# Altium footprint library mw.PcbLib: 123 footprints (part 3 of 8)
Each footprint in its own frame and in the unit in brackets; x right, y up, seen from the top. Pads: shape width x height; smd on the part's side, far side on the other; paste and mask are expansions set on the pad; w line width, h text height; cw(c..) or ccw(c..) is an arc to the next point about the centre after c.
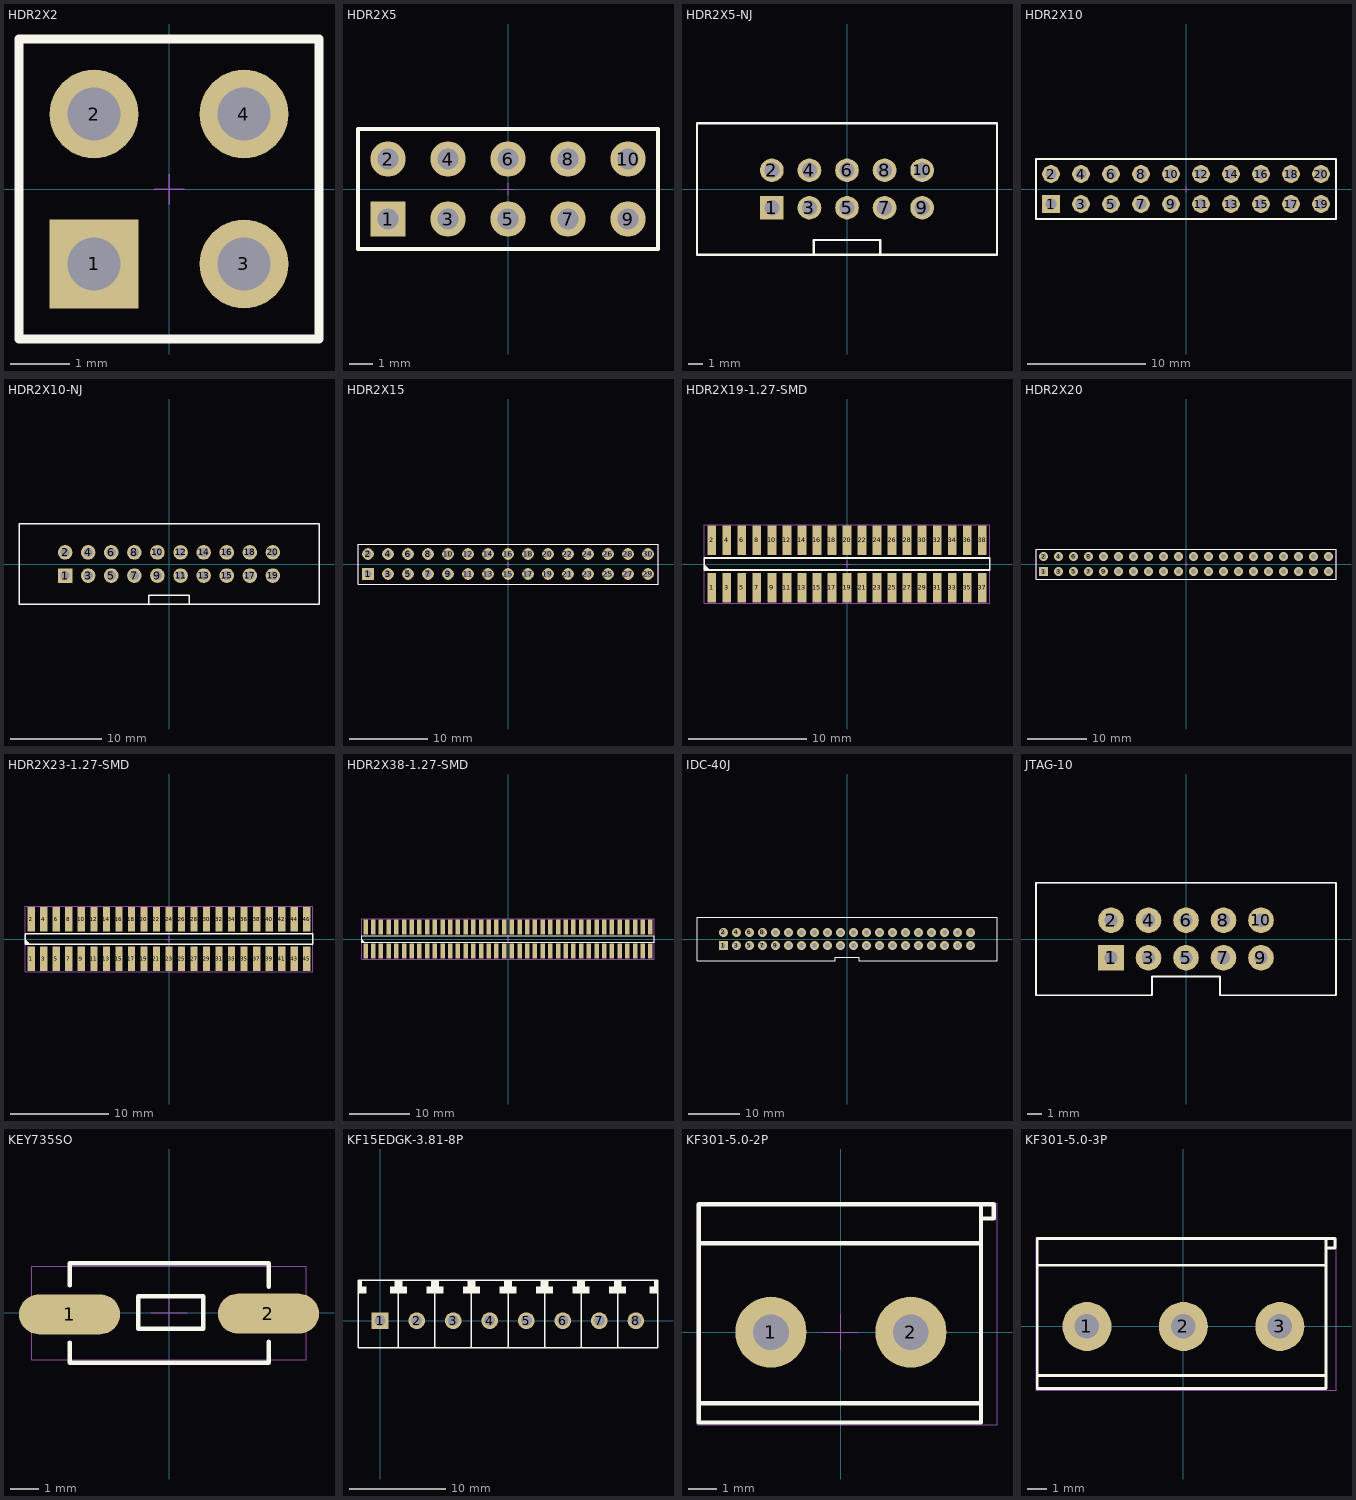
[diagram p2: the footprints below, top view; thin cyan lines are the x and y axes]

## HDR2X2 [mm] "Connector; Header"
pads (4):
  rect 1.5x1.5 hole 0.9: 1(-1.27,-1.27)
  round 1.5 hole 0.9: 2(-1.27,1.27) 3(1.27,-1.27) 4(1.27,1.27)
Top Overlay:
  lines w0.152: -2.54,2.52 -2.54,-2.54 2.54,-2.54 2.54,2.52 ; -2.54,2.54 2.54,2.54
Mechanical 15:
  lines w0.025: -2.54,2.52 -2.54,-2.54 2.54,-2.54 2.54,2.52 ; -2.54,2.54 2.54,2.54 ; -0.254,0 0.254,0 ; 0,-0.254 0,0.254

## HDR2X5 [mm] "Connector; Header; 5x2 Position"
pads (10):
  rect 1.5x1.5 hole 0.9: 1(-5.08,-1.27)
  round 1.5 hole 0.9: 2(-5.08,1.27) 3(-2.54,-1.27) 4(-2.54,1.27) 5(0,-1.27) 6(0,1.27) 7(2.54,-1.27) 8(2.54,1.27) 9(5.08,-1.27) 10(5.08,1.27)
Top Overlay:
  lines w0.152: -6.35,-2.54 6.35,-2.54 6.35,2.54 -6.35,2.54 -6.35,-2.54
Mechanical 15:
  lines w0.025: -0.254,0 0.254,0 ; 0,-0.254 0,0.254 ; -6.35,-2.54 6.35,-2.54 6.35,2.54 -6.35,2.54 -6.35,-2.54
3D body "header-2.54-2x5.STEP": height 9.3, standoff -2.2, extent -6.35,-2.54 6.35,2.54

## HDR2X5-NJ [mm]
pads (10):
  rect 1.6x1.6 hole 1.02: 1(-5.08,-1.27)
  round 1.6 hole 1.02: 2(-5.08,1.27) 3(-2.54,-1.27) 4(-2.54,1.27) 5(0,-1.27) 6(0,1.27) 7(2.54,-1.27) 8(2.54,1.27) 9(5.08,-1.27) 10(5.08,1.27)
Top Overlay:
  lines w0.152: -2.25,-4.45 -2.25,-3.45 2.25,-3.45 2.25,-4.45 ; -10.15,-4.45 -10.15,4.45 10.15,4.45 10.15,-4.45 -10.15,-4.45
3D body "jn-2.54-2x5.STEP": height 9, standoff -1.55, extent -10.15,-4.5 10.15,4.6

## HDR2X10 [mm] "Connector; Header;"
pads (20):
  rect 1.5x1.5 hole 0.9: 1(-11.43,-1.27)
  round 1.5 hole 0.9: 2(-11.43,1.27) 3(-8.89,-1.27) 4(-8.89,1.27) 5(-6.35,-1.27) 6(-6.35,1.27) 7(-3.81,-1.27) 8(-3.81,1.27) 9(-1.27,-1.27) 10(-1.27,1.27) 11(1.27,-1.27) 12(1.27,1.27) 13(3.81,-1.27) 14(3.81,1.27) 15(6.35,-1.27) 16(6.35,1.27) 17(8.89,-1.27) 18(8.89,1.27) 19(11.43,-1.27) 20(11.43,1.27)
Top Overlay:
  lines w0.152: -12.7,-2.54 -12.7,2.54 12.7,2.54 12.7,-2.54 -12.7,-2.54
Mechanical 15:
  lines w0.025: -0.254,0 0.254,0 ; 0,-0.254 0,0.254 ; -12.7,-2.54 -12.7,2.54 12.7,2.54 12.7,-2.54 -12.7,-2.54
3D body "header-2.54-2x10.STEP": height 9.3, standoff -2.2, extent -12.7,-2.535 12.7,2.545

## HDR2X10-NJ [mm]
pads (20):
  rect 1.6x1.6 hole 1.02: 1(-11.43,-1.27)
  round 1.6 hole 1.02: 2(-11.43,1.27) 3(-8.89,-1.27) 4(-8.89,1.27) 5(-6.35,-1.27) 6(-6.35,1.27) 7(-3.81,-1.27) 8(-3.81,1.27) 9(-1.27,-1.27) 10(-1.27,1.27) 11(1.27,-1.27) 12(1.27,1.27) 13(3.81,-1.27) 14(3.81,1.27) 15(6.35,-1.27) 16(6.35,1.27) 17(8.89,-1.27) 18(8.89,1.27) 19(11.43,-1.27) 20(11.43,1.27)
Top Overlay:
  lines w0.152: -2.25,-4.45 -2.25,-3.45 2.25,-3.45 2.25,-4.45 ; -16.5,-4.45 -16.5,4.45 16.5,4.45 16.5,-4.45 -16.5,-4.45
3D body "jn-2.54-2x10.STEP": height 9, standoff -1.55, extent -16.5,-4.45 16.5,4.65

## HDR2X15 [mm] "Connector; Header;"
pads (30):
  rect 1.5x1.5 hole 0.9: 1(-17.78,-1.27)
  round 1.5 hole 0.9: 2(-17.78,1.27) 3(-15.24,-1.27) 4(-15.24,1.27) 5(-12.7,-1.27) 6(-12.7,1.27) 7(-10.16,-1.27) 8(-10.16,1.27) 9(-7.62,-1.27) 10(-7.62,1.27) 11(-5.08,-1.27) 12(-5.08,1.27) 13(-2.54,-1.27) 14(-2.54,1.27) 15(0,-1.27) 16(0,1.27) 17(2.54,-1.27) 18(2.54,1.27) 19(5.08,-1.27) 20(5.08,1.27) 21(7.62,-1.27) 22(7.62,1.27) 23(10.16,-1.27) 24(10.16,1.27) 25(12.7,-1.27) 26(12.7,1.27) 27(15.24,-1.27) 28(15.24,1.27) 29(17.78,-1.27) 30(17.78,1.27)
Top Overlay:
  lines w0.152: -19.05,2.538 19.05,2.54 19.05,-2.54 -19.05,-2.54 -19.05,2.54
Mechanical 15:
  lines w0.025: -19.05,2.538 19.05,2.54 19.05,-2.54 -19.05,-2.54 ; -0.254,0 0.254,0 ; 0,-0.254 0,0.254 ; -19.05,-2.54 -19.05,2.54 -19.05,-2.54

## HDR2X19-1.27-SMD [mm]
pads (38):
  rect 0.74x2.5 smd: 1(-11.43,-2) 2(-11.43,2) 3(-10.16,-2) 4(-10.16,2) 5(-8.89,-2) 6(-8.89,2) 7(-7.62,-2) 8(-7.62,2) 9(-6.35,-2) 10(-6.35,2) 11(-5.08,-2) 12(-5.08,2) 13(-3.81,-2) 14(-3.81,2) 15(-2.54,-2) 16(-2.54,2) 17(-1.27,-2) 18(-1.27,2) 19(0,-2) 20(0,2) 21(1.27,-2) 22(1.27,2) 23(2.54,-2) 24(2.54,2) 25(3.81,-2) 26(3.81,2) 27(5.08,-2) 28(5.08,2) 29(6.35,-2) 30(6.35,2) 31(7.62,-2) 32(7.62,2) 33(8.89,-2) 34(8.89,2) 35(10.16,-2) 36(10.16,2) 37(11.43,-2) 38(11.43,2)
Top Overlay:
  region: -12.065,0 -11.557,-0.508 -12.065,-0.508
  lines w0.152: -12.065,-0.508 12.065,-0.508 12.065,0.508 -12.065,0.508 -12.065,-0.508
Mechanical 15:
  lines w0.025: -0.254,0 0.254,0 ; 0,-0.254 0,0.254 ; -12.065,-3.302 -12.065,3.302 12.065,3.302 12.065,-3.302 -12.065,-3.302
3D body "header-1.27-2x19.STEP": height 3.71, standoff 0, extent -12.065,-2.415 12.065,2.415

## HDR2X20 [mm] "Connector; Header;"
pads (40):
  rect 1.5x1.5 hole 0.9: 1(-24.13,-1.27)
  round 1.5 hole 0.9: 2(-24.13,1.27) 3(-21.59,-1.27) 4(-21.59,1.27) 5(-19.05,-1.27) 6(-19.05,1.27) 7(-16.51,-1.27) 8(-16.51,1.27) 9(-13.97,-1.27) 10(-13.97,1.27) 11(-11.43,-1.27) 12(-11.43,1.27) 13(-8.89,-1.27) 14(-8.89,1.27) 15(-6.35,-1.27) 16(-6.35,1.27) 17(-3.81,-1.27) 18(-3.81,1.27) 19(-1.27,-1.27) 20(-1.27,1.27) 21(1.27,-1.27) 22(1.27,1.27) 23(3.81,-1.27) 24(3.81,1.27) 25(6.35,-1.27) 26(6.35,1.27) 27(8.89,-1.27) 28(8.89,1.27) 29(11.43,-1.27) 30(11.43,1.27) 31(13.97,-1.27) 32(13.97,1.27) 33(16.51,-1.27) 34(16.51,1.27) 35(19.05,-1.27) 36(19.05,1.27) 37(21.59,-1.27) 38(21.59,1.27) 39(24.13,-1.27) 40(24.13,1.27)
Top Overlay:
  lines w0.152: -25.4,-2.54 25.4,-2.54 25.4,2.54 -25.4,2.54 -25.4,-2.54
Mechanical 15:
  lines w0.025: -0.254,0 0.254,0 ; 0,-0.254 0,0.254 ; -25.4,-2.54 25.4,-2.54 25.4,2.54 -25.4,2.54 -25.4,-2.54

## HDR2X23-1.27-SMD [mm]
pads (46):
  rect 0.74x2.5 smd: 1(-13.97,-2) 2(-13.97,2) 3(-12.7,-2) 4(-12.7,2) 5(-11.43,-2) 6(-11.43,2) 7(-10.16,-2) 8(-10.16,2) 9(-8.89,-2) 10(-8.89,2) 11(-7.62,-2) 12(-7.62,2) 13(-6.35,-2) 14(-6.35,2) 15(-5.08,-2) 16(-5.08,2) 17(-3.81,-2) 18(-3.81,2) 19(-2.54,-2) 20(-2.54,2) 21(-1.27,-2) 22(-1.27,2) 23(0,-2) 24(0,2) 25(1.27,-2) 26(1.27,2) 27(2.54,-2) 28(2.54,2) 29(3.81,-2) 30(3.81,2) 31(5.08,-2) 32(5.08,2) 33(6.35,-2) 34(6.35,2) 35(7.62,-2) 36(7.62,2) 37(8.89,-2) 38(8.89,2) 39(10.16,-2) 40(10.16,2) 41(11.43,-2) 42(11.43,2) 43(12.7,-2) 44(12.7,2) 45(13.97,-2) 46(13.97,2)
Top Overlay:
  region: -14.605,0 -14.097,-0.508 -14.605,-0.508
  lines w0.152: -14.605,-0.508 -14.605,0.508 14.605,0.508 14.605,-0.508 -14.605,-0.508
Mechanical 15:
  lines w0.025: -0.254,0 0.254,0 ; 0,-0.254 0,0.254 ; -14.605,-3.302 14.605,-3.302 14.605,3.302 -14.605,3.302 -14.605,-3.302
3D body "header-1.27-2x23.STEP": height 3.71, standoff 0, extent -14.605,-2.415 14.605,2.415

## HDR2X38-1.27-SMD [mm]
pads (76):
  rect 0.74x2.5 smd: 1(-23.495,-2) 2(-23.495,2) 3(-22.225,-2) 4(-22.225,2) 5(-20.955,-2) 6(-20.955,2) 7(-19.685,-2) 8(-19.685,2) 9(-18.415,-2) 10(-18.415,2) 11(-17.145,-2) 12(-17.145,2) 13(-15.875,-2) 14(-15.875,2) 15(-14.605,-2) 16(-14.605,2) 17(-13.335,-2) 18(-13.335,2) 19(-12.065,-2) 20(-12.065,2) 21(-10.795,-2) 22(-10.795,2) 23(-9.525,-2) 24(-9.525,2) 25(-8.255,-2) 26(-8.255,2) 27(-6.985,-2) 28(-6.985,2) 29(-5.715,-2) 30(-5.715,2) 31(-4.445,-2) 32(-4.445,2) 33(-3.175,-2) 34(-3.175,2) 35(-1.905,-2) 36(-1.905,2) 37(-0.635,-2) 38(-0.635,2) 39(0.635,-2) 40(0.635,2) 41(1.905,-2) 42(1.905,2) 43(3.175,-2) 44(3.175,2) 45(4.445,-2) 46(4.445,2) 47(5.715,-2) 48(5.715,2) 49(6.985,-2) 50(6.985,2) 51(8.255,-2) 52(8.255,2) 53(9.525,-2) 54(9.525,2) 55(10.795,-2) 56(10.795,2) 57(12.065,-2) 58(12.065,2) 59(13.335,-2) 60(13.335,2) 61(14.605,-2) 62(14.605,2) 63(15.875,-2) 64(15.875,2) 65(17.145,-2) 66(17.145,2) 67(18.415,-2) 68(18.415,2) 69(19.685,-2) 70(19.685,2) 71(20.955,-2) 72(20.955,2) 73(22.225,-2) 74(22.225,2) 75(23.495,-2) 76(23.495,2)
Top Overlay:
  region: -24.13,0 -23.622,-0.508 -24.13,-0.508
  lines w0.152: -24.13,-0.508 -24.13,0.508 24.13,0.508 24.13,-0.508 -24.13,-0.508
Mechanical 15:
  lines w0.025: -0.254,0 0.254,0 ; 0,-0.254 0,0.254 ; -24.13,-3.302 -24.13,3.302 24.13,3.302 24.13,-3.302 -24.13,-3.302
3D body "header-1.27-2x38.STEP": height 3.71, standoff 0, extent -24.13,-2.415 24.13,2.415

## IDC-40J [mil] "IDC-40J"
pads (40):
  rect 68x68 hole 35: 1(-950,-50)
  round 68 hole 35: 2(-950,50) 3(-850,-50) 4(-850,50) 5(-750,-50) 6(-750,50) 7(-650,-50) 8(-650,50) 9(-550,-50) 10(-550,50) 11(-450,-50) 12(-450,50) 13(-350,-50) 14(-350,50) 15(-250,-50) 16(-250,50) 17(-150,-50) 18(-150,50) 19(-50,-50) 20(-50,50) 21(50,-50) 22(50,50) 23(150,-50) 24(150,50) 25(250,-50) 26(250,50) 27(350,-50) 28(350,50) 29(450,-50) 30(450,50) 31(550,-50) 32(550,50) 33(650,-50) 34(650,50) 35(750,-50) 36(750,50) 37(850,-50) 38(850,50) 39(950,-50) 40(950,50)
Top Overlay:
  lines w5: -1153.54,-166.54 -91.54,-166.54 -91,-140 90.02,-140 90.55,-166.54 1153.54,-166.54 1153.54,166.54 -1153.54,166.54 -1153.54,-166.54

## JTAG-10 [mm] "JTAG-10"
pads (10):
  rect 1.73x1.73 hole 0.89: 1(-5.08,-1.27)
  round 1.73 hole 0.89: 2(-5.08,1.27) 3(-2.54,-1.27) 4(-2.54,1.27) 5(0,-1.27) 6(0,1.27) 7(2.54,-1.27) 8(2.54,1.27) 9(5.08,-1.27) 10(5.08,1.27)
Top Overlay:
  lines w0.13: -9.14,3.81 -10.16,3.81 ; -10.16,-3.81 -10.16,3.81 ; -10.16,-3.81 -2.29,-3.81 ; -10.16,-3.81 -10.16,3.81 ; -10.16,-3.81 -9.65,-3.81 -2.29,-3.81 ; -10.16,3.81 10.16,3.81 10.16,-3.81 9.4,-3.81 2.29,-3.81 2.29,-2.79 2.29,-2.54 -2.29,-2.54 -2.29,-3.81
Mechanical 12:
  lines w0.025: -10.16,-3.81 -10.16,3.81 10.16,3.81 10.16,-3.81
Mechanical 13:
  lines w0.025: -10.16,-3.81 -10.16,3.81 10.16,3.81 10.16,-3.81

## KEY735SO [mil] "KEY735SO"
pads (2):
  oval 140x55.12 smd: 1(-137.5,-1.9) 2(137.5,-0.9)
Top Overlay:
  lines w6: -137.5,-40.9 -137.5,-68.9 138.09,-68.9 138.09,-39.9 ; -137.5,38.1 -137.5,68.9 138.09,68.9 138.09,36.1 ; -42.5,-21.9 47.5,-21.9 47.5,23.1 -42.5,23.1 -42.5,-21.9
Mechanical 15:
  lines w1: -25,0 25,0 ; 0,-25 0,25 ; -190,-65 190,-65 190,65 -190,65 -190,-65
3D body "k2-1101st-a4sa-01.STEP": height 197, standoff -39.22, extent -189.97,-65 189.97,64.92

## KF15EDGK-3.81-8P [mm]
pads (8):
  rect 1.75x1.75 hole 1.15 unplated: 1(0,0)
  round 1.75 hole 1.15 unplated: 2(3.81,0) 3(7.62,0) 4(11.43,0) 5(15.24,0) 6(19.05,0) 7(22.86,0) 8(26.67,0)
Top Overlay:
  region: 1.528,4.201 1.528,3.551 1.057,3.551 1.057,2.845 2.761,2.845 2.761,3.551 2.286,3.551 2.286,4.201
  region: 5.338,4.201 5.338,3.551 4.867,3.551 4.867,2.845 6.571,2.845 6.571,3.551 6.096,3.551 6.096,4.201
  region: 9.148,4.201 9.148,3.551 8.677,3.551 8.677,2.845 10.381,2.845 10.381,3.551 9.906,3.551 9.906,4.201
  region: 12.958,4.201 12.958,3.551 12.487,3.551 12.487,2.845 14.191,2.845 14.191,3.551 13.716,3.551 13.716,4.201
  region: 16.768,4.201 16.768,3.551 16.297,3.551 16.297,2.845 18.001,2.845 18.001,3.551 17.526,3.551 17.526,4.201
  region: 20.578,4.201 20.578,3.551 20.107,3.551 20.107,2.845 21.811,2.845 21.811,3.551 21.336,3.551 21.336,4.201
  region: 24.388,4.201 24.388,3.551 23.917,3.551 23.917,2.845 25.621,2.845 25.621,3.551 25.146,3.551 25.146,4.201
  region: -2.305,4.201 -2.305,2.845 -1.451,2.845 -1.451,3.551 -1.926,3.551 -1.926,4.201
  region: 28.975,4.201 28.975,2.845 28.121,2.845 28.121,3.551 28.596,3.551 28.596,4.201
  lines w0.152: 1.907,-2.774 1.907,4.2 ; 5.717,-2.774 5.717,4.2 ; 9.527,-2.774 9.527,4.2 ; 13.337,-2.774 13.337,4.2 ; 17.147,-2.774 17.147,4.2 ; 20.957,-2.774 20.957,4.2 ; 24.767,-2.774 24.767,4.2 ; -2.305,-2.8 28.975,-2.8 28.975,4.2 -2.305,4.2 -2.305,-2.8

## KF301-5.0-2P [mm] "5.0间距螺钉端子"
pads (2):
  round 2.54 hole 1.27: 1(-2.5,0) 2(2.5,0)
Top Overlay:
  lines w0.152: -5.08,-2.54 5,-2.54 ; -5.08,3.175 4.953,3.175 ; 5,4.064 5.461,4.064 5.461,4.572 5,4.572 ; 5,4.572 5,-3.225 -5.08,-3.225 -5.08,4.572 5,4.572
Mechanical 15:
  lines w0.025: -0.635,0 0.635,0 ; 0,-0.635 0,0.635 ; -5.143,-3.315 5.575,-3.315 5.575,4.61 -5.143,4.61 -5.143,-3.315
3D body "KF301-5.0-2.STEP": height 10.16, standoff -1.84, extent -5.033,-3.186 5.467,4.514

## KF301-5.0-3P [mm]
pads (3):
  round 2.54 hole 1.27: 1(-5,0) 2(0,0) 3(5,0)
Top Overlay:
  lines w0.152: -7.58,-2.54 7.406,-2.54 ; -7.58,3.175 7.406,3.175 ; 7.406,4.064 7.867,4.064 7.867,4.572 7.406,4.572 ; 7.406,4.572 7.406,-3.225 -7.58,-3.225 -7.58,4.572 7.406,4.572
Mechanical 15:
  lines w0.025: -0.635,0 0.635,0 ; 0,-0.635 0,0.635 ; -7.644,-3.315 7.914,-3.315 7.914,4.61 -7.644,4.61 -7.644,-3.315
3D body "KF301-5.0-3.STEP": height 10, standoff -2, extent -7.583,-3.128 7.917,4.572